# EAGLE library part STM32F042 (library stm32)
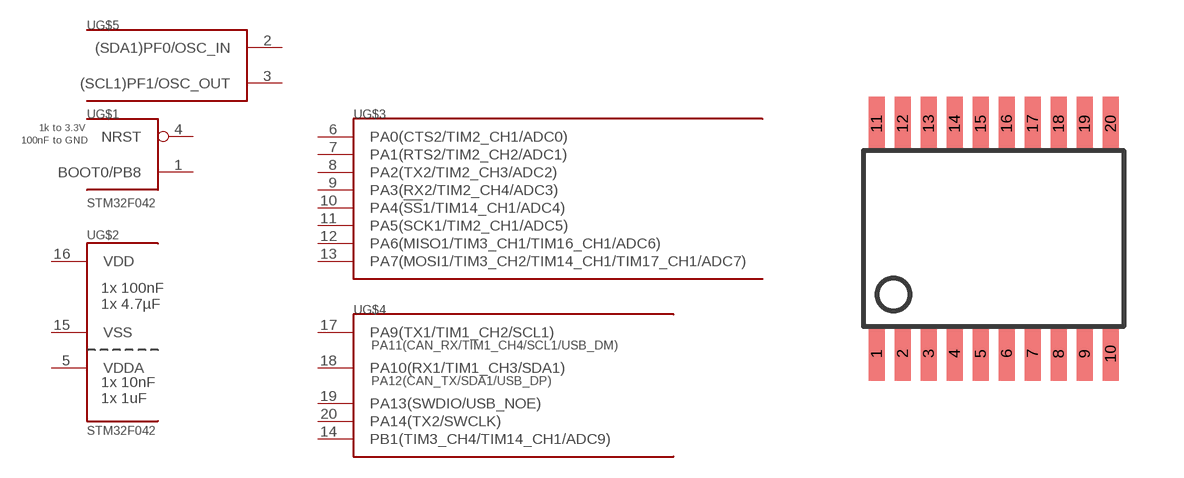
[diagram p10: symbol with the pads of TSSOP20; footprint TSSOP20]

Designator prefix -; gates G$2=STM32F042_POWER G$3=STM32F042_PORT_A_L G$4=STM32F042_PORT_A_H_B1 G$1=STM32F042_BOOT_RST G$5=STM32F042_OSC_F

## STM32F042  [TSSOP20]
1  G$1:BOOT0/PB8  in
2  G$5:(SDA1)PF0/OSC_IN  in
3  G$5:(SCL1)PF1/OSC_OUT  out
4  G$1:NRST  in
5  G$2:VDDA  pwr
6  G$3:PA0(CTS2/TIM2_CH1/ADC0)
7  G$3:PA1(RTS2/TIM2_CH2/ADC1)
8  G$3:PA2(TX2/TIM2_CH3/ADC2)
9  G$3:PA3(RX2/TIM2_CH4/ADC3)
10  G$3:PA4(!SS!1/TIM14_CH1/ADC4)
11  G$3:PA5(SCK1/TIM2_CH1/ADC5)
12  G$3:PA6(MISO1/TIM3_CH1/TIM16_CH1/ADC6)
13  G$3:PA7(MOSI1/TIM3_CH2/TIM14_CH1/TIM17_CH1/ADC7)
14  G$4:PB1(TIM3_CH4/TIM14_CH1/ADC9)
15  G$2:VSS  pwr
16  G$2:VDD  pwr
17  G$4:PA9(TX1/TIM1_CH2/SCL1)
18  G$4:PA10(RX1/TIM1_CH3/SDA1)
19  G$4:PA13(SWDIO/USB_NOE)
20  G$4:PA14(TX2/SWCLK)

## Footprint TSSOP20 (pad centres in mm)
smd 0.4 x 1.35: 1 -2.925,-2.875; 2 -2.275,-2.875; 3 -1.625,-2.875; 4 -0.975,-2.875; 5 -0.325,-2.875; 6 0.325,-2.875; 7 0.975,-2.875; 8 1.625,-2.875; 9 2.275,-2.875; 10 2.925,-2.875; 11 -2.925,2.875; 12 -2.275,2.875; 13 -1.625,2.875; 14 -0.975,2.875; 15 -0.325,2.875; 16 0.325,2.875; 17 0.975,2.875; 18 1.625,2.875; 19 2.275,2.875; 20 2.925,2.875